# Altium footprint library WLCSP$25N0.40P5X5_2.1X2.2X0.6-25_25.PcbLib: 1 footprints
Each footprint in its own frame and in the unit in brackets; x right, y up, seen from the top. Pads: shape width x height; smd on the part's side, far side on the other; paste and mask are expansions set on the pad; w line width, h text height; cw(c..) or ccw(c..) is an arc to the next point about the centre after c.
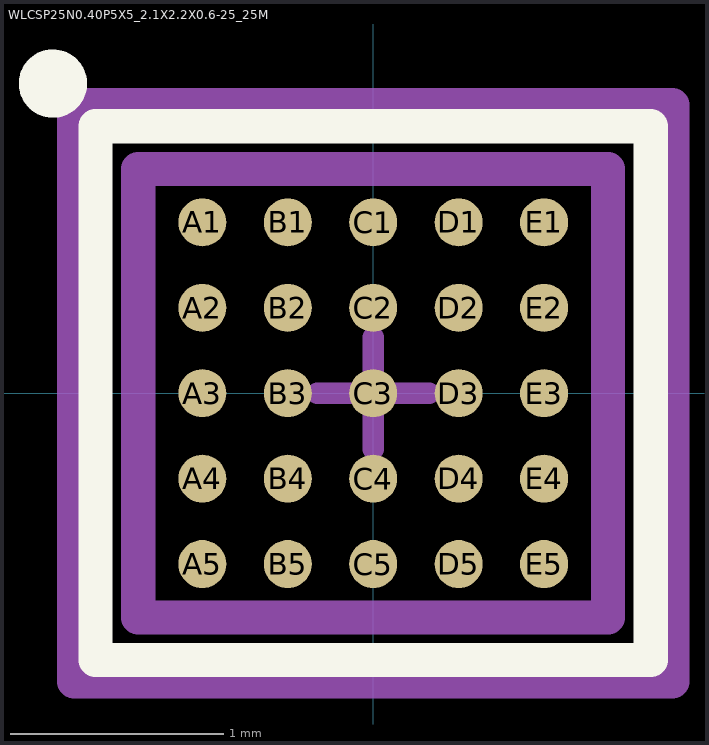
[diagram p0: the footprint, top view; thin cyan lines are the x and y axes]

## WLCSP25N0.40P5X5_2.1X2.2X0.6-25_25M [mm] "WLCSP 25 2.2x2.1x0.6 P 0.4 mm"
height 0.6
pads (25):
  round 0.225 smd: A1(-0.8,0.8) A2(-0.8,0.4) A3(-0.8,0) A4(-0.8,-0.4) A5(-0.8,-0.8) B1(-0.4,0.8) B2(-0.4,0.4) B3(-0.4,0) B4(-0.4,-0.4) B5(-0.4,-0.8) C1(0,0.8) C2(0,0.4) C3(0,0) C4(0,-0.4) C5(0,-0.8) D1(0.4,0.8) D2(0.4,0.4) D3(0.4,0) D4(0.4,-0.4) D5(0.4,-0.8) E1(0.8,0.8) E2(0.8,0.4) E3(0.8,0) E4(0.8,-0.4) E5(0.8,-0.8)
Top Overlay:
  circle w0.16: c-1.5,1.45 r0.08
  lines w0.16: -1.3,-1.25 1.3,-1.25 1.3,1.25 -1.3,1.25 -1.3,-1.25
Top Component Center:
  lines w0.1: -0.262,0 0.262,0 ; 0,-0.262 0,0.262
Top Courtyard:
  lines w0.16: -1.4,-1.35 1.4,-1.35 1.4,1.35 -1.4,1.35 -1.4,-1.35
Top Assembly:
  lines w0.16: -1.1,-1.05 1.1,-1.05 1.1,1.05 -1.1,1.05 -1.1,-1.05
3D body "WLCSP25N0.40P5X5_2.1X2.2X0.6-25_25M.STEP": height 0.6, standoff 0, extent -1.1,-1.05 1.1,1.05